# Altium schematic symbol library LT3976.Schlib: 1 symbol
Pins are listed as number, name and electrical type; pins without a type are passive.

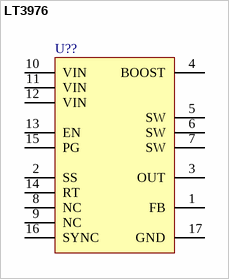
[diagram p0: symbol LT3976]

## LT3976
designator U??
pins: 1 FB, 2 SS (power), 3 OUT, 4 BOOST, 5 SW, 6 SW, 7 SW, 8 NC (power), 9 NC (power), 10 VIN, 11 VIN, 12 VIN, 13 EN (power), 14 RT (power), 15 PG (power), 16 SYNC (power), 17 GND